# Altium footprint library con-molex-micro-fit-3_0.PCBLIB: 194 footprints (part 5 of 13)
Each footprint in its own frame and in the unit in brackets; x right, y up, seen from the top. Pads: shape width x height; smd on the part's side, far side on the other; paste and mask are expansions set on the pad; w line width, h text height; cw(c..) or ccw(c..) is an arc to the next point about the centre after c.
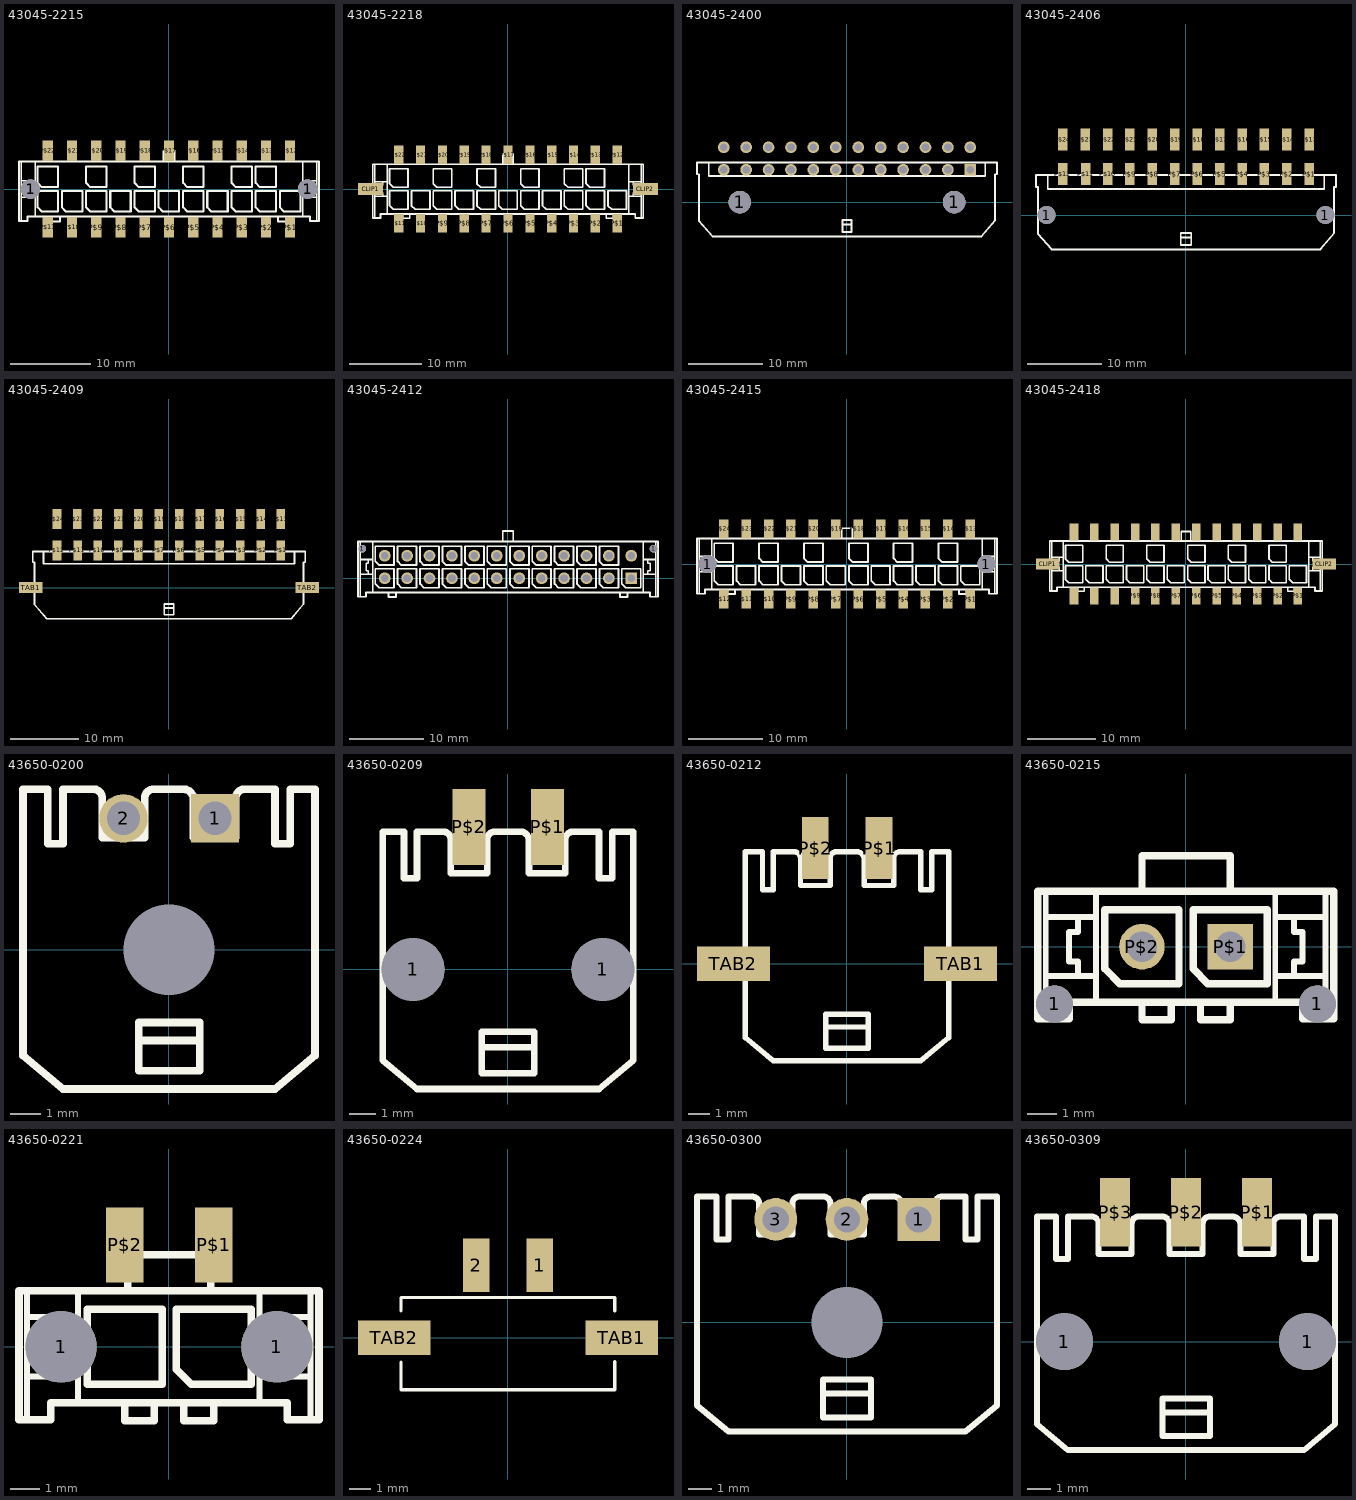
[diagram p4: the footprints below, top view; thin cyan lines are the x and y axes]

## 43045-2215 [mil]
pads (24):
  round 95 hole 95: 1(-675.2,0) 1(676,0)
  rect 50x100 smd: P$1(591,-185.04) P$2(473,-185.04) P$3(355,-185.04) P$4(237,-185.04) P$5(119,-185.04) P$6(0,-185.04) P$7(-118.11,-185.04) P$8(-236.22,-185.04) P$9(-354.33,-185.04) P$10(-472.44,-185.04) P$11(-590.55,-185.04) P$12(591,186) P$13(473,186) P$14(355,186) P$15(237,186) P$16(119,186) P$17(0,186) P$18(-118.11,186) P$19(-236.22,186) P$20(-354.33,186) P$21(-472.44,186) P$22(-590.55,186)
Top Overlay:
  lines w8: -720.47,-156.3 -720.47,-39.37 ; -720.47,134 -720.47,40 ; -652.36,-133.86 -652.36,-39.37 ; -652.36,134 -652.36,40 ; 653,-133.86 653,-39.37 ; 653,134 653,40 ; 721,-156.3 721,-39.37 ; 721,134 721,40 ; -720.47,-39.37 -720.47,40 ; -720.47,-39.37 -677.17,-39.37 ; -720.47,40 -677.17,40 ; -677.17,-39.37 -652.36,-39.37 ; -677.17,-39.37 -677.17,-19.68 -688.98,-19.68 -688.98,20 -677.17,20 -677.17,40 ; -677.17,40 -652.36,40 ; -652.36,-39.37 -652.36,40 ; 653,-39.37 653,40 ; 653,-39.37 678,-39.37 ; 653,40 678,40 ; 678,-39.37 721,-39.37 ; 678,-39.37 678,-19.68 689,-19.68 689,20 678,20 678,40 ; 678,40 721,40 ; 721,-39.37 721,40
  lines w10: -570.87,-133.86 -531.5,-133.86 ; -570.87,-133.86 -652.36,-133.86 -688.98,-133.86 -688.98,-156.3 -720.47,-156.3 -731.3,-156.3 -731.3,134 -720.47,134 -652.36,134 -27.56,134 ; -570.87,-133.86 -570.87,-157.48 -531.5,-157.48 -531.5,-133.86 ; -531.5,-133.86 532,-133.86 ; -27.56,134 28,134 ; -27.56,134 -27.56,189 28,189 28,134 ; 28,134 653,134 721,134 732,134 732,-156.3 721,-156.3 689,-156.3 689,-133.86 653,-133.86 571,-133.86 ; 532,-133.86 571,-133.86 ; 532,-133.86 532,-157.48 571,-157.48 571,-133.86 ; -640.55,-89.06 -640.55,-9.06 -540.55,-9.06 -540.55,-109.06 -620.55,-109.06 -640.55,-89.06 ; -640.55,30 -640.55,110 -540.55,110 -540.55,10 -620.55,10 -640.55,30 ; -522.44,-89.06 -522.44,-9.06 -422.44,-9.06 -422.44,-109.06 -502.44,-109.06 -522.44,-89.06 ; -404.33,-89.06 -404.33,-9.06 -304.33,-9.06 -304.33,-109.06 -384.33,-109.06 -404.33,-89.06 ; -404.33,30 -404.33,110 -304.33,110 -304.33,10 -384.33,10 -404.33,30 ; -286.22,-89.06 -286.22,-9.06 -186.22,-9.06 -186.22,-109.06 -266.22,-109.06 -286.22,-89.06 ; -168.11,-89.06 -168.11,-9.06 -68.11,-9.06 -68.11,-109.06 -148.11,-109.06 -168.11,-89.06 ; -168.11,30 -168.11,110 -68.11,110 -68.11,10 -148.11,10 -168.11,30 ; -50,-89.06 -50,-9.06 50,-9.06 50,-109.06 -30,-109.06 -50,-89.06 ; 69,-89.06 69,-9.06 169,-9.06 169,-109.06 89,-109.06 69,-89.06 ; 69,30 69,110 169,110 169,10 89,10 69,30 ; 187,-89.06 187,-9.06 287,-9.06 287,-109.06 207,-109.06 187,-89.06 ; 305,-89.06 305,-9.06 405,-9.06 405,-109.06 325,-109.06 305,-89.06 ; 305,30 305,110 405,110 405,10 325,10 305,30 ; 423,-89.06 423,-9.06 523,-9.06 523,-109.06 443,-109.06 423,-89.06 ; 423,30 423,110 523,110 523,10 443,10 423,30 ; 541,-89.06 541,-9.06 641,-9.06 641,-109.06 561,-109.06 541,-89.06
Bottom Overlay:
  lines w10: -522.44,10 -522.44,110 -422.44,110 -422.44,30 -442.44,10 -522.44,10 ; -286.22,10 -286.22,110 -186.22,110 -186.22,30 -206.22,10 -286.22,10 ; -50,10 -50,110 50,110 50,30 30,10 -50,10 ; 187,10 187,110 287,110 287,30 267,10 187,10 ; 541,10 541,110 641,110 641,30 621,10 541,10

## 43045-2218 [mil]
pads (24):
  rect 136x65 smd: CLIP1(-743.31,0) CLIP2(744,0)
  rect 50x100 smd: P$1(591,-185.04) P$2(473,-185.04) P$3(355,-185.04) P$4(237,-185.04) P$5(119,-185.04) P$6(0,-185.04) P$7(-118.11,-185.04) P$8(-236.22,-185.04) P$9(-354.33,-185.04) P$10(-472.44,-185.04) P$11(-590.55,-185.04) P$12(591,186) P$13(473,186) P$14(355,186) P$15(237,186) P$16(119,186) P$17(0,186) P$18(-118.11,186) P$19(-236.22,186) P$20(-354.33,186) P$21(-472.44,186) P$22(-590.55,186)
Top Overlay:
  lines w8: -720.47,-156.3 -720.47,-39.37 ; -720.47,134 -720.47,40 ; -652.36,-133.86 -652.36,-39.37 ; -652.36,134 -652.36,40 ; 653,-133.86 653,-39.37 ; 653,134 653,40 ; 721,-156.3 721,-39.37 ; 721,134 721,40 ; -720.47,-39.37 -720.47,40 ; -720.47,-39.37 -677.17,-39.37 ; -720.47,40 -677.17,40 ; -677.17,-39.37 -652.36,-39.37 ; -677.17,-39.37 -677.17,-19.68 -688.98,-19.68 -688.98,20 -677.17,20 -677.17,40 ; -677.17,40 -652.36,40 ; -652.36,-39.37 -652.36,40 ; 653,-39.37 653,40 ; 653,-39.37 678,-39.37 ; 653,40 678,40 ; 678,-39.37 721,-39.37 ; 678,-39.37 678,-19.68 689,-19.68 689,20 678,20 678,40 ; 678,40 721,40 ; 721,-39.37 721,40
  lines w10: -570.87,-133.86 -531.5,-133.86 ; -570.87,-133.86 -652.36,-133.86 -688.98,-133.86 -688.98,-156.3 -720.47,-156.3 -731.3,-156.3 -731.3,134 -720.47,134 -652.36,134 -27.56,134 ; -570.87,-133.86 -570.87,-157.48 -531.5,-157.48 -531.5,-133.86 ; -531.5,-133.86 532,-133.86 ; -27.56,134 28,134 ; -27.56,134 -27.56,189 28,189 28,134 ; 28,134 653,134 721,134 732,134 732,-156.3 721,-156.3 689,-156.3 689,-133.86 653,-133.86 571,-133.86 ; 532,-133.86 571,-133.86 ; 532,-133.86 532,-157.48 571,-157.48 571,-133.86 ; -640.55,-89.06 -640.55,-9.06 -540.55,-9.06 -540.55,-109.06 -620.55,-109.06 -640.55,-89.06 ; -640.55,30 -640.55,110 -540.55,110 -540.55,10 -620.55,10 -640.55,30 ; -522.44,-89.06 -522.44,-9.06 -422.44,-9.06 -422.44,-109.06 -502.44,-109.06 -522.44,-89.06 ; -404.33,-89.06 -404.33,-9.06 -304.33,-9.06 -304.33,-109.06 -384.33,-109.06 -404.33,-89.06 ; -404.33,30 -404.33,110 -304.33,110 -304.33,10 -384.33,10 -404.33,30 ; -286.22,-89.06 -286.22,-9.06 -186.22,-9.06 -186.22,-109.06 -266.22,-109.06 -286.22,-89.06 ; -168.11,-89.06 -168.11,-9.06 -68.11,-9.06 -68.11,-109.06 -148.11,-109.06 -168.11,-89.06 ; -168.11,30 -168.11,110 -68.11,110 -68.11,10 -148.11,10 -168.11,30 ; -50,-89.06 -50,-9.06 50,-9.06 50,-109.06 -30,-109.06 -50,-89.06 ; 69,-89.06 69,-9.06 169,-9.06 169,-109.06 89,-109.06 69,-89.06 ; 69,30 69,110 169,110 169,10 89,10 69,30 ; 187,-89.06 187,-9.06 287,-9.06 287,-109.06 207,-109.06 187,-89.06 ; 305,-89.06 305,-9.06 405,-9.06 405,-109.06 325,-109.06 305,-89.06 ; 305,30 305,110 405,110 405,10 325,10 305,30 ; 423,-89.06 423,-9.06 523,-9.06 523,-109.06 443,-109.06 423,-89.06 ; 423,30 423,110 523,110 523,10 443,10 423,30 ; 541,-89.06 541,-9.06 641,-9.06 641,-109.06 561,-109.06 541,-89.06
Bottom Overlay:
  lines w10: -522.44,10 -522.44,110 -422.44,110 -422.44,30 -442.44,10 -522.44,10 ; -286.22,10 -286.22,110 -186.22,110 -186.22,30 -206.22,10 -286.22,10 ; -50,10 -50,110 50,110 50,30 30,10 -50,10 ; 187,10 187,110 287,110 287,30 267,10 187,10 ; 541,10 541,110 641,110 641,30 621,10 541,10

## 43045-2400 [mil]
pads (26):
  round 119 hole 119: 1(-564.96,0) 1(565,0)
  rect 61.5x61.5 hole 41: P$1(650,171)
  round 61.5 hole 41: P$2(532,171) P$3(414,171) P$4(296,171) P$5(178,171) P$6(60,171) P$7(-59.06,171) P$8(-177.17,171) P$9(-295.28,171) P$10(-413.39,171) P$11(-531.5,171) P$12(-649.61,171) P$13(650,289) P$14(532,289) P$15(414,289) P$16(296,289) P$17(178,289) P$18(60,289) P$19(-59.06,289) P$20(-177.17,289) P$21(-295.28,289) P$22(-413.39,289) P$23(-531.5,289) P$24(-649.61,289)
Top Overlay:
  lines w5: -190.16,210 -728.35,210 -189.96,210
  lines w10: -728.35,210 -790.55,210 -790.55,147 -780.51,147 -780.51,-98.43 -708.66,-181.1 709,-181.1 781,-94.49 781,147 791,147 791,210 729,210 ; -728.35,210 729,210 ; -728.35,210 -728.35,138 729,138 729,210 ; -23.62,-118.11 -23.62,-157.48 24,-157.48 24,-118.11 ; -23.62,-118.11 -23.62,-94.49 24,-94.49 24,-118.11 ; -23.62,-118.11 24,-118.11

## 43045-2406 [mil]
pads (26):
  round 95 hole 95: 1(-734.25,0) 1(735,0)
  rect 50x115 smd: P$1(650,216) P$2(532,216) P$3(414,216) P$4(296,216) P$5(178,216) P$6(60,216) P$7(-59.06,216) P$8(-177.17,216) P$9(-295.28,216) P$10(-413.39,216) P$11(-529.13,216) P$12(-649.61,216) P$13(650,398) P$14(532,398) P$15(414,398) P$16(296,398) P$17(178,398) P$18(60,398) P$19(-59.06,398) P$20(-177.17,398) P$21(-295.28,398) P$22(-413.39,398) P$23(-531.5,398) P$24(-649.61,398)
Top Overlay:
  lines w5: -190.16,210 -728.35,210 -189.96,210
  lines w10: -728.35,210 -790.55,210 -790.55,147 -780.51,147 -780.51,-98.43 -708.66,-181.1 709,-181.1 781,-94.49 781,147 791,147 791,210 729,210 ; -728.35,210 729,210 ; -728.35,210 -728.35,138 729,138 729,210 ; -27.56,-118.11 -27.56,-157.48 28,-157.48 28,-118.11 ; -27.56,-118.11 -27.56,-94.49 28,-94.49 28,-118.11 ; -27.56,-118.11 28,-118.11

## 43045-2409 [mil]
pads (26):
  rect 50x115 smd: P$1(650,216) P$2(532,216) P$3(414,216) P$4(296,216) P$5(178,216) P$6(60,216) P$7(-59.06,216) P$8(-177.17,216) P$9(-295.28,216) P$10(-413.39,216) P$11(-529.13,216) P$12(-649.61,216) P$13(650,398) P$14(532,398) P$15(414,398) P$16(296,398) P$17(178,398) P$18(60,398) P$19(-59.06,398) P$20(-177.17,398) P$21(-295.28,398) P$22(-413.39,398) P$23(-531.5,398) P$24(-649.61,398)
  rect 136x65 smd: TAB1(-802.36,0) TAB2(803,0)
Top Overlay:
  lines w5: -190.16,210 -728.35,210 -189.96,210
  lines w10: -728.35,210 -790.55,210 -790.55,147 -780.51,147 -780.51,-98.43 -708.66,-181.1 709,-181.1 781,-94.49 781,147 791,147 791,210 729,210 ; -728.35,210 729,210 ; -728.35,210 -728.35,138 729,138 729,210 ; -27.56,-118.11 -27.56,-157.48 28,-157.48 28,-118.11 ; -27.56,-118.11 -27.56,-94.49 28,-94.49 28,-118.11 ; -27.56,-118.11 28,-118.11

## 43045-2412 [mil]
pads (26):
  round 41 hole 41: 1(-767.72,156) 1(768,156)
  rect 61.5x61.5 hole 41: P$1(650,0)
  round 61.5 hole 41: P$2(532,0) P$3(414,0) P$4(296,0) P$5(178,0) P$6(60,0) P$7(-59.06,0) P$8(-177.17,0) P$9(-295.28,0) P$10(-413.39,0) P$11(-531.5,0) P$12(-649.61,0) P$13(650,119) P$14(532,119) P$15(414,119) P$16(296,119) P$17(178,119) P$18(60,119) P$19(-59.06,119) P$20(-177.17,119) P$21(-295.28,119) P$22(-413.39,119) P$23(-531.5,119) P$24(-649.61,119)
Top Overlay:
  drawing of 176 lines, arcs and shapes, not listed
Bottom Overlay:
  lines w10: 600,69 600,169 700,169 700,89 680,69 600,69

## 43045-2415 [mil]
pads (26):
  round 95 hole 95: 1(-734.25,0) 1(735,0)
  rect 50x100 smd: P$1(650,-185.04) P$2(532,-185.04) P$3(414,-185.04) P$4(296,-185.04) P$5(178,-185.04) P$6(60,-185.04) P$7(-59.06,-185.04) P$8(-177.17,-185.04) P$9(-295.28,-185.04) P$10(-413.39,-185.04) P$11(-531.5,-185.04) P$12(-649.61,-185.04) P$13(650,186) P$14(532,186) P$15(414,186) P$16(296,186) P$17(178,186) P$18(60,186) P$19(-59.06,186) P$20(-177.17,186) P$21(-295.28,186) P$22(-413.39,186) P$23(-531.5,186) P$24(-649.61,186)
Top Overlay:
  drawing of 151 lines, arcs and shapes, not listed
Bottom Overlay:
  lines w10: -581.5,10 -581.5,110 -481.5,110 -481.5,30 -501.5,10 -581.5,10 ; -345.28,10 -345.28,110 -245.28,110 -245.28,30 -265.28,10 -345.28,10 ; -109.06,10 -109.06,110 -9.06,110 -9.06,30 -29.06,10 -109.06,10 ; 128,10 128,110 228,110 228,30 208,10 128,10 ; 364,10 364,110 464,110 464,30 444,10 364,10 ; 600,10 600,110 700,110 700,30 680,10 600,10

## 43045-2418 [mil]
pads (26):
  rect 136x65 smd: CLIP1(-802.36,0) CLIP2(803,0)
  rect 50x100 smd: P$1(650,-185.04) P$2(532,-185.04) P$3(414,-185.04) P$4(296,-185.04) P$5(178,-185.04) P$6(60,-185.04) P$7(-59.06,-185.04) P$8(-177.17,-185.04) P$9(-295.28,-185.04) P$10(-413.39,-185.04) P$11(-531.5,-185.04) P$12(-649.61,-185.04) P$13(650,186) P$14(532,186) P$15(414,186) P$16(296,186) P$17(178,186) P$18(60,186) P$19(-59.06,186) P$20(-177.17,186) P$21(-295.28,186) P$22(-413.39,186) P$23(-531.5,186) P$24(-649.61,186)
Top Overlay:
  drawing of 151 lines, arcs and shapes, not listed
Bottom Overlay:
  lines w10: -581.5,10 -581.5,110 -481.5,110 -481.5,30 -501.5,10 -581.5,10 ; -345.28,10 -345.28,110 -245.28,110 -245.28,30 -265.28,10 -345.28,10 ; -109.06,10 -109.06,110 -9.06,110 -9.06,30 -29.06,10 -109.06,10 ; 128,10 128,110 228,110 228,30 208,10 128,10 ; 364,10 364,110 464,110 464,30 444,10 364,10 ; 600,10 600,110 700,110 700,30 680,10 600,10

## 43650-0200 [mm]
pads (3):
  round 0 hole 3 unplated: 0(0,0)
  rect 1.6x1.6 hole 1.1: 1(1.524,4.343)
  round 1.6 hole 1.1: 2(-1.5,4.343)
Top Overlay:
  lines w0.254: -1,-3 1.016,-3 ; -1,-3 -1,-2.4 1.016,-2.4 1.016,-3 ; -1,-3 -1,-4 1.016,-4 1.016,-3 ; -4.82,-3.5 -3.5,-4.6 3.505,-4.6 4.826,-3.5 4.826,5.309 4.013,5.309 4.013,3.505 3.505,3.505 3.505,5.309 2.515,5.309 ccw(c2.515,5.004) 2.21,5.004 2.21,3.708 0.813,3.708 0.813,5.004 ccw(c0.457,4.953) 0.508,5.309 -0.5,5.309 ccw(c-0.498,5.006) -0.8,5.004 -0.8,3.708 -2.2,3.708 -2.2,5.004 ccw(c-2.502,5.006) -2.5,5.309 -3.5,5.309 -3.5,3.505 -4,3.505 -4,5.309 -4.82,5.309 -4.82,-3.5
3D body "436500200.stp": height 5.64, standoff -3.27, extent -4.825,-4.569 4.825,5.331

## 43650-0209 [mil]
pads (4):
  round 95 hole 95: 1(-143.7,0) 1(144,0)
  rect 50x115 smd: P$1(60,216) P$2(-59.06,216)
Top Overlay:
  lines w10: -39.37,-118.11 40,-118.11 ; -39.37,-118.11 -39.37,-94.49 40,-94.49 40,-118.11 ; -39.37,-118.11 -39.37,-157.48 40,-157.48 40,-118.11 ; -189.76,-137.8 -137.8,-181.1 138,-181.1 190,-137.8 190,209 158,209 158,138 138,138 138,209 99,209 ccw(c99,197) 87,197 87,146 32,146 32,197 ccw(c18,195) 20,209 -19.68,209 ccw(c-19.59,197.09) -31.5,197 -31.5,146 -86.61,146 -86.61,197 ccw(c-98.52,197.09) -98.43,209 -137.8,209 -137.8,138 -157.48,138 -157.48,209 -189.76,209 -189.76,-137.8

## 43650-0212 [mil]
pads (4):
  rect 50x115 smd: P$1(60,216) P$2(-59.06,216)
  rect 136x65 smd: TAB1(212,0) TAB2(-211.81,0)
Top Overlay:
  lines w10: -39.37,-118.11 40,-118.11 ; -39.37,-118.11 -39.37,-94.49 40,-94.49 40,-118.11 ; -39.37,-118.11 -39.37,-157.48 40,-157.48 40,-118.11 ; -189.76,-137.8 -137.8,-181.1 138,-181.1 190,-137.8 190,209 158,209 158,138 138,138 138,209 99,209 ccw(c99,197) 87,197 87,146 32,146 32,197 ccw(c18,195) 20,209 -19.68,209 ccw(c-19.59,197.09) -31.5,197 -31.5,146 -86.61,146 -86.61,197 ccw(c-98.52,197.09) -98.43,209 -137.8,209 -137.8,138 -157.48,138 -157.48,209 -189.76,209 -189.76,-137.8

## 43650-0215 [mil]
pads (4):
  round 50 hole 50: 1(-177.17,-77.17) 1(178,-77.17)
  rect 61.5x61.5 hole 41: P$1(60,0)
  round 61.5 hole 41: P$2(-59.06,0)
Top Overlay:
  lines w8: -188.98,-97.24 -188.98,-39.37 ; -188.98,75 -188.98,40 ; -120.87,-74.8 -120.87,-39.37 ; -120.87,75 -120.87,40 ; 121,-74.8 121,-39.37 ; 121,75 121,40 ; 189,-97.24 189,-39.37 ; 189,75 189,40 ; -188.98,-39.37 -145.67,-39.37 ; -188.98,-39.37 -188.98,40 ; -188.98,40 -145.67,40 ; -145.67,-39.37 -145.67,-19.68 -157.48,-19.68 -157.48,20 -145.67,20 -145.67,40 ; -145.67,-39.37 -120.87,-39.37 ; -145.67,40 -120.87,40 ; -120.87,-39.37 -120.87,40 ; 121,-39.37 146,-39.37 ; 121,-39.37 121,40 ; 121,40 146,40 ; 146,-39.37 146,-19.68 158,-19.68 158,20 146,20 146,40 ; 146,-39.37 189,-39.37 ; 146,40 189,40 ; 189,-39.37 189,40
  lines w10: -59.06,-74.8 -59.06,-98.43 -19.68,-98.43 -19.68,-74.8 ; -59.06,-74.8 -120.87,-74.8 -157.48,-74.8 -157.48,-97.24 -188.98,-97.24 -199.8,-97.24 -199.8,75 -188.98,75 -120.87,75 -59.06,75 ; -59.06,-74.8 -19.68,-74.8 ; -59.06,75 -59.06,123 60,123 60,75 ; -59.06,75 60,75 ; -19.68,-74.8 20,-74.8 ; 20,-74.8 20,-98.43 60,-98.43 60,-74.8 ; 20,-74.8 60,-74.8 ; 60,-74.8 121,-74.8 158,-74.8 158,-97.24 189,-97.24 200,-97.24 200,75 189,75 121,75 60,75 ; -109.06,-30 -89.06,-50 -9.06,-50 -9.06,50 -109.06,50 -109.06,-30 ; 10,-30 30,-50 110,-50 110,50 10,50 10,-30

## 43650-0221 [mil]
pads (4):
  round 95 hole 95: 1(-143.7,0) 1(144,0)
  rect 50x100 smd: P$1(60,136) P$2(-59.06,136)
Top Overlay:
  lines w8: -188.98,-97.24 -188.98,-39.37 ; -188.98,75 -188.98,40 ; -120.87,-74.8 -120.87,-39.37 ; -120.87,75 -120.87,40 ; 121,-74.8 121,-39.37 ; 121,75 121,40 ; 189,-97.24 189,-39.37 ; 189,75 189,40 ; -188.98,-39.37 -145.67,-39.37 ; -188.98,-39.37 -188.98,40 ; -188.98,40 -145.67,40 ; -145.67,-39.37 -145.67,-19.68 -157.48,-19.68 -157.48,20 -145.67,20 -145.67,40 ; -145.67,-39.37 -120.87,-39.37 ; -145.67,40 -120.87,40 ; -120.87,-39.37 -120.87,40 ; 121,-39.37 146,-39.37 ; 121,-39.37 121,40 ; 121,40 146,40 ; 146,-39.37 146,-19.68 158,-19.68 158,20 146,20 146,40 ; 146,-39.37 189,-39.37 ; 146,40 189,40 ; 189,-39.37 189,40
  lines w10: -59.06,-74.8 -59.06,-98.43 -19.68,-98.43 -19.68,-74.8 ; -59.06,-74.8 -120.87,-74.8 -157.48,-74.8 -157.48,-97.24 -188.98,-97.24 -199.8,-97.24 -199.8,75 -188.98,75 -120.87,75 -55.12,75 ; -59.06,-74.8 -19.68,-74.8 ; -55.12,75 -55.12,123 56,123 56,75 ; -55.12,75 56,75 ; -19.68,-74.8 20,-74.8 ; 20,-74.8 20,-98.43 60,-98.43 60,-74.8 ; 20,-74.8 60,-74.8 ; 56,75 121,75 189,75 200,75 200,-97.24 189,-97.24 158,-97.24 158,-74.8 121,-74.8 60,-74.8 ; -109.06,-50 -109.06,50 -9.06,50 -9.06,-50 -109.06,-50 ; 10,-30 30,-50 110,-50 110,50 10,50 10,-30

## 43650-0224 [mil]
pads (4):
  rect 50x100 smd: 1(60,136) 2(-59.06,136)
  rect 136x65 smd: TAB1(213,0) TAB2(-212.2,0)
Top Overlay:
  lines w5.91: -199.8,-45.2 -199.8,-97.24 200,-97.24 200,-45 ; -199.8,50.2 -199.8,75 200,75 200,50
3D body "436500224.stp": height 391.73, standoff 0.79, extent -267.63,-97.24 269.77,161.42

## 43650-0300 [mm]
pads (4):
  round 0 hole 3 unplated: 0(0,0)
  rect 1.8x1.8 hole 1.1: 1(3.023,4.343)
  round 1.8 hole 1.1: 2(0,4.343) 3(-3,4.343)
Top Overlay:
  lines w0.254: -1,-3 1.016,-3 ; -1,-3 -1,-2.4 1.016,-2.4 1.016,-3 ; -1,-3 -1,-4 1.016,-4 1.016,-3 ; -6.32,-3.5 -5,-4.6 5.004,-4.6 6.325,-3.5 6.325,5.309 5.512,5.309 5.512,3.505 5.004,3.505 5.004,5.309 4.013,5.309 ccw(c4.013,5.004) 3.708,5.004 3.708,3.708 2.311,3.708 2.311,5.004 ccw(c1.956,4.953) 2.007,5.309 1.016,5.309 ccw(c1.016,5.004) 0.711,5.004 0.711,3.708 -0.7,3.708 -0.7,5.004 ccw(c-1.002,5.006) -1,5.309 -2,5.309 ccw(c-1.998,5.006) -2.3,5.004 -2.3,3.708 -3.7,3.708 -3.7,5.004 ccw(c-4.002,5.006) -4,5.309 -5,5.309 -5,3.505 -5.5,3.505 -5.5,5.309 -6.32,5.309 -6.32,-3.5
3D body "436500300.stp": height 5.73, standoff -3.17, extent -6.325,-4.656 6.325,5.244

## 43650-0309 [mil]
pads (5):
  round 95 hole 95: 1(-202.76,0) 1(203,0)
  rect 50x115 smd: P$1(119,216) P$2(0,216) P$3(-118.11,216)
Top Overlay:
  lines w10: -39.37,-118.11 -39.37,-157.48 40,-157.48 40,-118.11 ; -39.37,-118.11 -39.37,-94.49 40,-94.49 40,-118.11 ; -39.37,-118.11 40,-118.11 ; -248.82,-137.8 -248.82,209 -216.54,209 -216.54,138 -196.85,138 -196.85,209 -157.48,209 cw(c-157.57,197.09) -145.67,197 -145.67,146 -90.55,146 -90.55,197 cw(c-78.65,197.09) -78.74,209 -39.37,209 cw(c-39.46,197.09) -27.56,197 -27.56,146 28,146 28,197 cw(c40,197) 40,209 79,209 cw(c77,195) 91,197 91,146 146,146 146,197 cw(c158,197) 158,209 197,209 197,138 217,138 217,209 249,209 249,-137.8 197,-181.1 -196.85,-181.1 -248.82,-137.8